# Altium footprint library Footprint.PcbLib: 240 footprints (part 3 of 15)
Each footprint in its own frame and in the unit in brackets; x right, y up, seen from the top. Pads: shape width x height; smd on the part's side, far side on the other; paste and mask are expansions set on the pad; w line width, h text height; cw(c..) or ccw(c..) is an arc to the next point about the centre after c.
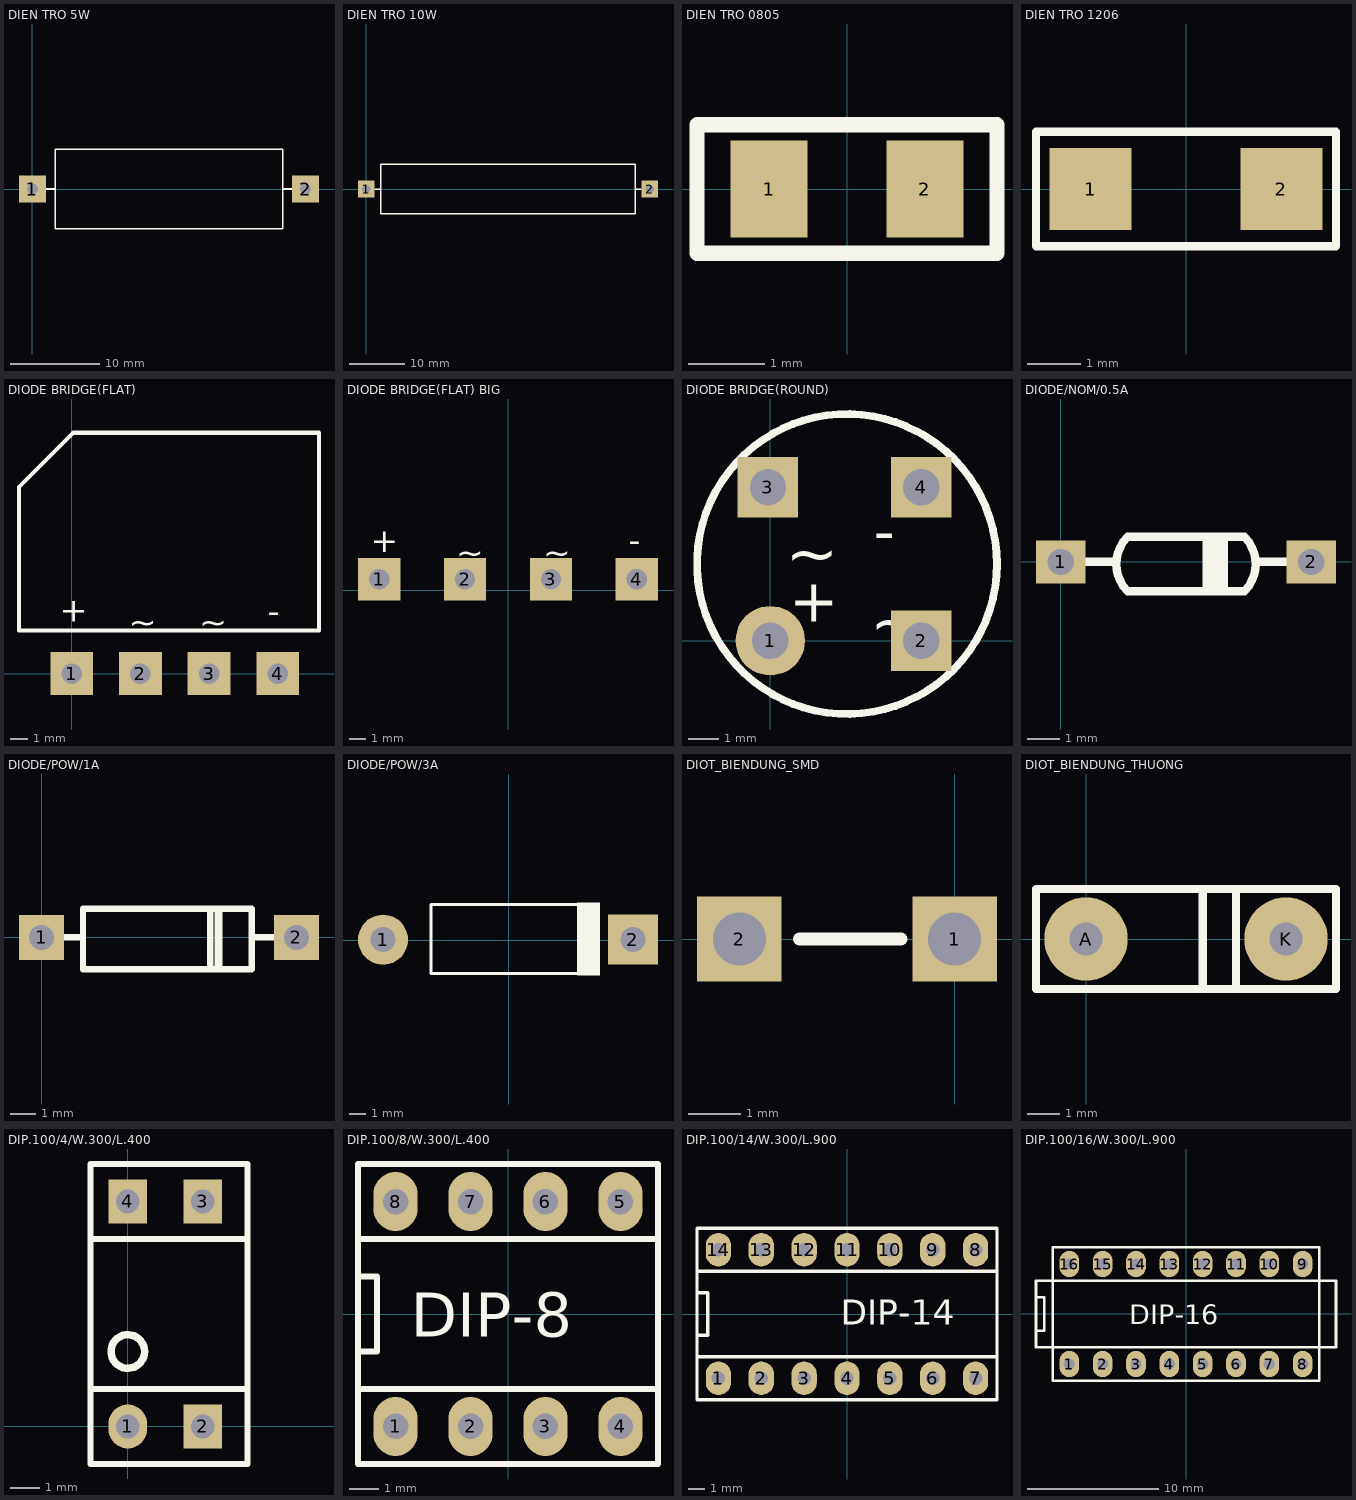
[diagram p2: the footprints below, top view; thin cyan lines are the x and y axes]

## DIEN TRO 5W [mm]
pads (2):
  rect 3x3 hole 1.2: 1(0,0) 2(30.48,0)
Top Overlay:
  lines w0.203: 2.54,-4.445 27.94,-4.445 ; 2.54,-4.445 2.54,4.445 ; 2.54,-4.445 27.94,-4.445 ; 2.54,-4.445 2.54,4.445 ; 2.54,4.445 27.94,4.445 ; 2.54,4.445 27.94,4.445 ; 27.94,-4.445 27.94,4.445 ; 27.94,-4.445 27.94,4.445 ; 1.27,0 2.54,0 1.27,0 ; 27.94,0 29.21,0 27.94,0
3D body: height 7.62, standoff 0, extent 2.54,-4.445 27.94,4.445

## DIEN TRO 10W [mm]
pads (2):
  rect 3x3 hole 1.5: 1(0,0) 2(50.8,0)
Top Overlay:
  lines w0.254: 1.524,0 2.54,0 ; 48.26,0 49.276,0 ; 2.54,-4.445 2.54,4.445 48.26,4.445 48.26,-4.445 2.54,-4.445
3D body: height 7.62, standoff 0, extent 2.54,-4.445 48.26,4.445

## DIEN TRO 0805 [mm] "Chip Resistor; Body 2.0 x 1.3 mm (LxW typ)"
height 2.54
pads (2):
  rect 1x1.27 smd: 1(-1.016,0) 2(1.016,0)
Top Overlay:
  lines w0.2: 1.956,0.813 1.956,-0.838 -1.956,-0.838 -1.956,0.838 1.956,0.838
3D body: height 0.78, standoff 0, extent -1,-0.625 1,0.625

## DIEN TRO 1206 [mil]
pads (2):
  rect 60x60 smd: 1(-70,0) 2(70,0)
Top Overlay:
  lines w6: -110,-42 -110,0 -110,42 110,42 110,0 110,-42 -110,-42

## DIODE BRIDGE(FLAT) [mm]
pads (4):
  rect 2.5x2.5 / inner round 1.575 / far side rect 2.5x2.5 hole 1.2: 1(0,0) 2(4,0) 3(8,0) 4(12,0)
Top Overlay:
  lines w0.254: -3.073,2.515 2.045,2.515 14.402,2.515 14.402,14.021 0.076,14.021 -3.073,10.871 -3.073,2.515
  text "~" at 3.327,2.286 h1.43
  text "~" at 7.417,2.299 h1.43
  text "+" at -0.686,3.01 h1.43
  text "-" at 11.405,2.946 h1.43

## DIODE BRIDGE(FLAT) BIG [mm]
pads (4):
  rect 2.5x2.5 hole 1.2: 1(-7.62,0.66) 2(-2.54,0.66) 3(2.54,0.66) 4(7.62,0.66)
Top Overlay:
  text "-" at 7.137,2.286 h1.43
  text "+" at -8.103,2.261 h1.43
  text "~" at 2.083,1.549 h1.43
  text "~" at -3.073,1.549 h1.43
3D body: height 24.27, standoff -12.36, extent -11.15,-1.78 11.15,1.98

## DIODE BRIDGE(ROUND) [mm]
height 5.59
pads (4):
  round 2.3 hole 1.2: 1(0,0)
  rect 2x2 hole 1.2: 2(5,0) 3(-0.08,5.08) 4(5,5.08)
Top Overlay:
  circle w0.254: c2.54,2.54 r4.968
  text "~" at 3.302,-0.127 h1.52
  text "~" at 0.508,2.159 h1.52
  text "-" at 3.429,2.921 h1.43
  text "+" at 0.635,0.635 h1.43

## DIODE/NOM/0.5A [mm]
pads (2):
  rect 1.5x1.3 hole 0.8: 1(0,0) 2(7.62,0)
Top Overlay:
  lines w0.254: 0.635,0 1.651,0 ; 4.445,-0.762 4.445,0.762 ; 4.699,-0.889 4.699,0.762 ; 4.953,-0.889 4.953,0.762 ; 5.969,0 7.112,0 ; 2.032,-0.889 cw(c2.857,-0.064) 2.032,0.762 5.588,0.762 cw(c4.763,-0.064) 5.588,-0.889 2.032,-0.889

## DIODE/POW/1A [mm]
pads (2):
  rect 1.8x1.8 hole 1: 1(0,0) 2(10.16,0)
Top Overlay:
  lines w0.2: 6.985,-1.27 6.985,1.143 ; 7.112,-1.27 7.112,1.143
  lines w0.254: 0.635,0 1.651,0 ; 6.731,-1.27 6.731,1.143 ; 8.382,0 9.525,0 ; 1.651,-1.27 1.651,1.143 8.382,1.143 8.382,-1.27 1.651,-1.27
3D body: height 2.55, standoff -2.54, extent -0.381,-1.283 10.541,1.283

## DIODE/POW/3A [mil]
pads (2):
  round 120 hole 60: 1(-301,1)
  rect 120x120 hole 60: 2(298,1)
Top Overlay:
  rectangle: 164,-85 219,90
  lines w7.87: 214,-65 199,-80 -186,-80 -186,85 194,85 214,65
3D body: height 248.03, standoff -92.52, extent -320.86,-104.33 320.87,104.33

## DIOT_BIENDUNG_SMD [mm]
pads (2):
  rect 1.6x1.6 hole 1: 1(0,0) 2(-4.064,0)
Top Overlay:
  lines w0.254: -2.928,0 -1.016,0

## DIOT_BIENDUNG_THUONG [mm]
pads (2):
  round 2.54 hole 1: A(0,0) K(6.096,0)
Top Overlay:
  lines w0.254: 3.556,-1.524 3.556,1.524 ; 4.572,-1.524 4.572,1.524 ; -1.524,-1.524 -1.524,1.524 7.62,1.524 7.62,-1.524 -1.524,-1.524

## DIP.100/4/W.300/L.400 [mm]
height 5.59
pads (4):
  oval 1.3x1.5 hole 0.8: 1(0,0)
  rect 1.3x1.5 hole 0.8: 2(2.54,0) 3(2.54,7.62) 4(0,7.62)
Top Overlay:
  circle w0.254: c0,2.54 r0.568
  lines w0.203: -1.27,1.27 4.064,1.27 ; -1.27,1.27 -1.27,6.35 ; -1.27,1.27 4.064,1.27 ; -1.27,1.27 -1.27,6.35 ; -1.27,1.27 -1.27,-1.27 4.064,-1.27 4.064,1.524 4.064,6.35 ; -1.27,1.27 -1.27,2.54 -1.27,5.08 -1.27,8.89 4.064,8.89 4.064,6.35 ; -1.27,6.35 4.064,6.35 ; -1.27,6.35 4.064,6.35 ; 4.064,1.27 4.064,6.35
3D body: height 5, standoff 0.4, extent -1.27,-1.27 4.064,8.89

## DIP.100/8/W.300/L.400 [mm]
pads (8):
  oval 1.5x2 hole 0.864: 1(-3.81,-3.81) 2(-1.27,-3.81) 3(1.27,-3.81) 4(3.81,-3.81) 5(3.81,3.81) 6(1.27,3.81) 7(-1.27,3.81) 8(-3.81,3.81)
Top Overlay:
  lines w0.203: -5.08,-2.54 -5.08,-1.27 ; -5.08,-2.54 -5.08,-5.08 5.08,-5.08 5.08,2.54 ; -5.08,-2.54 -5.08,2.54 ; -5.08,-2.54 5.08,-2.54 ; -5.08,-2.54 -5.08,2.54 ; -5.08,-2.54 5.08,-2.54 ; -5.08,-1.27 -5.08,1.27 ; -5.08,-1.27 -4.445,-1.27 ; -5.08,-1.27 -4.445,-1.27 ; -5.08,1.27 -5.08,5.08 5.08,5.08 5.08,2.54 ; -5.08,1.27 -4.445,1.27 ; -5.08,1.27 -4.445,1.27 ; -5.08,2.54 5.08,2.54 ; -5.08,2.54 5.08,2.54 ; -4.445,-1.27 -4.445,1.27 ; -4.445,-1.27 -4.445,1.27 ; 5.08,-2.54 5.08,2.54 ; 5.08,-2.54 5.08,2.54
  text "DIP-8" at -3.302,-0.762 h1.5
3D body: height 4.5, standoff -3.5, extent -5.4,-3.88 5.4,3.88

## DIP.100/14/W.300/L.900 [mm]
height 5.59
pads (14):
  oval 1.5x2 hole 0.8: 1(-7.62,-3.81) 2(-5.08,-3.81) 3(-2.54,-3.81) 4(0,-3.81) 5(2.54,-3.81) 6(5.08,-3.81) 7(7.62,-3.81) 8(7.62,3.81) 9(5.08,3.81) 10(2.54,3.81) 11(0,3.81) 12(-2.54,3.81) 13(-5.08,3.81) 14(-7.62,3.81)
Top Overlay:
  lines w0.203: -8.89,-2.54 8.89,-2.54 ; -8.89,-2.54 8.89,-2.54 ; -8.89,-2.54 -8.89,-1.27 ; -8.89,-2.54 -8.89,-1.27 ; -8.89,-1.27 -8.89,1.27 ; -8.89,-1.27 -8.255,-1.27 ; -8.89,-1.27 -8.89,1.27 ; -8.89,-1.27 -8.255,-1.27 ; -8.89,1.27 -8.89,2.54 ; -8.89,1.27 -8.255,1.27 ; -8.89,1.27 -8.89,2.54 ; -8.89,1.27 -8.255,1.27 ; -8.89,2.54 8.89,2.54 ; -8.89,2.54 8.89,2.54 ; -8.255,-1.27 -8.255,1.27 ; -8.255,-1.27 -8.255,1.27 ; 8.89,-2.54 8.89,2.54 ; -8.89,-5.08 -8.89,5.08 8.89,5.08 8.89,-5.08 -8.89,-5.08
  text "DIP-14" at -0.381,-0.635 h1.5
3D body: height 4.5, standoff -3.5, extent -9.05,-3.88 9.05,3.88

## DIP.100/16/W.300/L.900 [mm]
pads (16):
  oval 1.5x2 hole 0.864: 1(-8.897,-3.812) 2(-6.357,-3.812) 3(-3.817,-3.812) 4(-1.277,-3.812) 5(1.263,-3.812) 6(3.803,-3.812) 7(6.343,-3.812) 8(8.883,-3.812) 9(8.883,3.808) 10(6.343,3.808) 11(3.803,3.808) 12(1.263,3.808) 13(-1.277,3.808) 14(-3.817,3.808) 15(-6.357,3.808) 16(-8.897,3.808)
Top Overlay:
  lines w0.203: -11.437,-2.542 11.423,-2.542 ; -11.437,-2.542 -11.437,-1.272 ; -11.437,-2.542 11.423,-2.542 ; -11.437,-2.542 -11.437,-1.272 ; -11.437,-1.272 -11.437,1.268 ; -11.437,-1.272 -10.802,-1.272 ; -11.437,-1.272 -11.437,1.268 ; -11.437,-1.272 -10.802,-1.272 ; -11.437,1.268 -11.437,2.538 ; -11.437,1.268 -10.802,1.268 ; -11.437,1.268 -11.437,2.538 ; -11.437,1.268 -10.802,1.268 ; -11.437,2.538 11.423,2.538 ; -11.437,2.538 11.423,2.538 ; -10.802,-1.272 -10.802,1.268 ; -10.802,-1.272 -10.802,1.268 ; 11.423,-2.542 11.423,2.538 ; 11.423,-2.542 11.423,2.538 ; -10.167,-5.082 -10.167,5.078 10.153,5.078 10.153,-5.082 -10.167,-5.082
  text "DIP-16" at -4.325,-0.764 h1.5
3D body: height 2.49, standoff -5.08, extent -10,-3.935 10,3.935